# Altium footprint library CapAluminium.PcbLib: 51 footprints (part 2 of 4)
Each footprint in its own frame and in the unit in brackets; x right, y up, seen from the top. Pads: shape width x height; smd on the part's side, far side on the other; paste and mask are expansions set on the pad; w line width, h text height; cw(c..) or ccw(c..) is an arc to the next point about the centre after c.
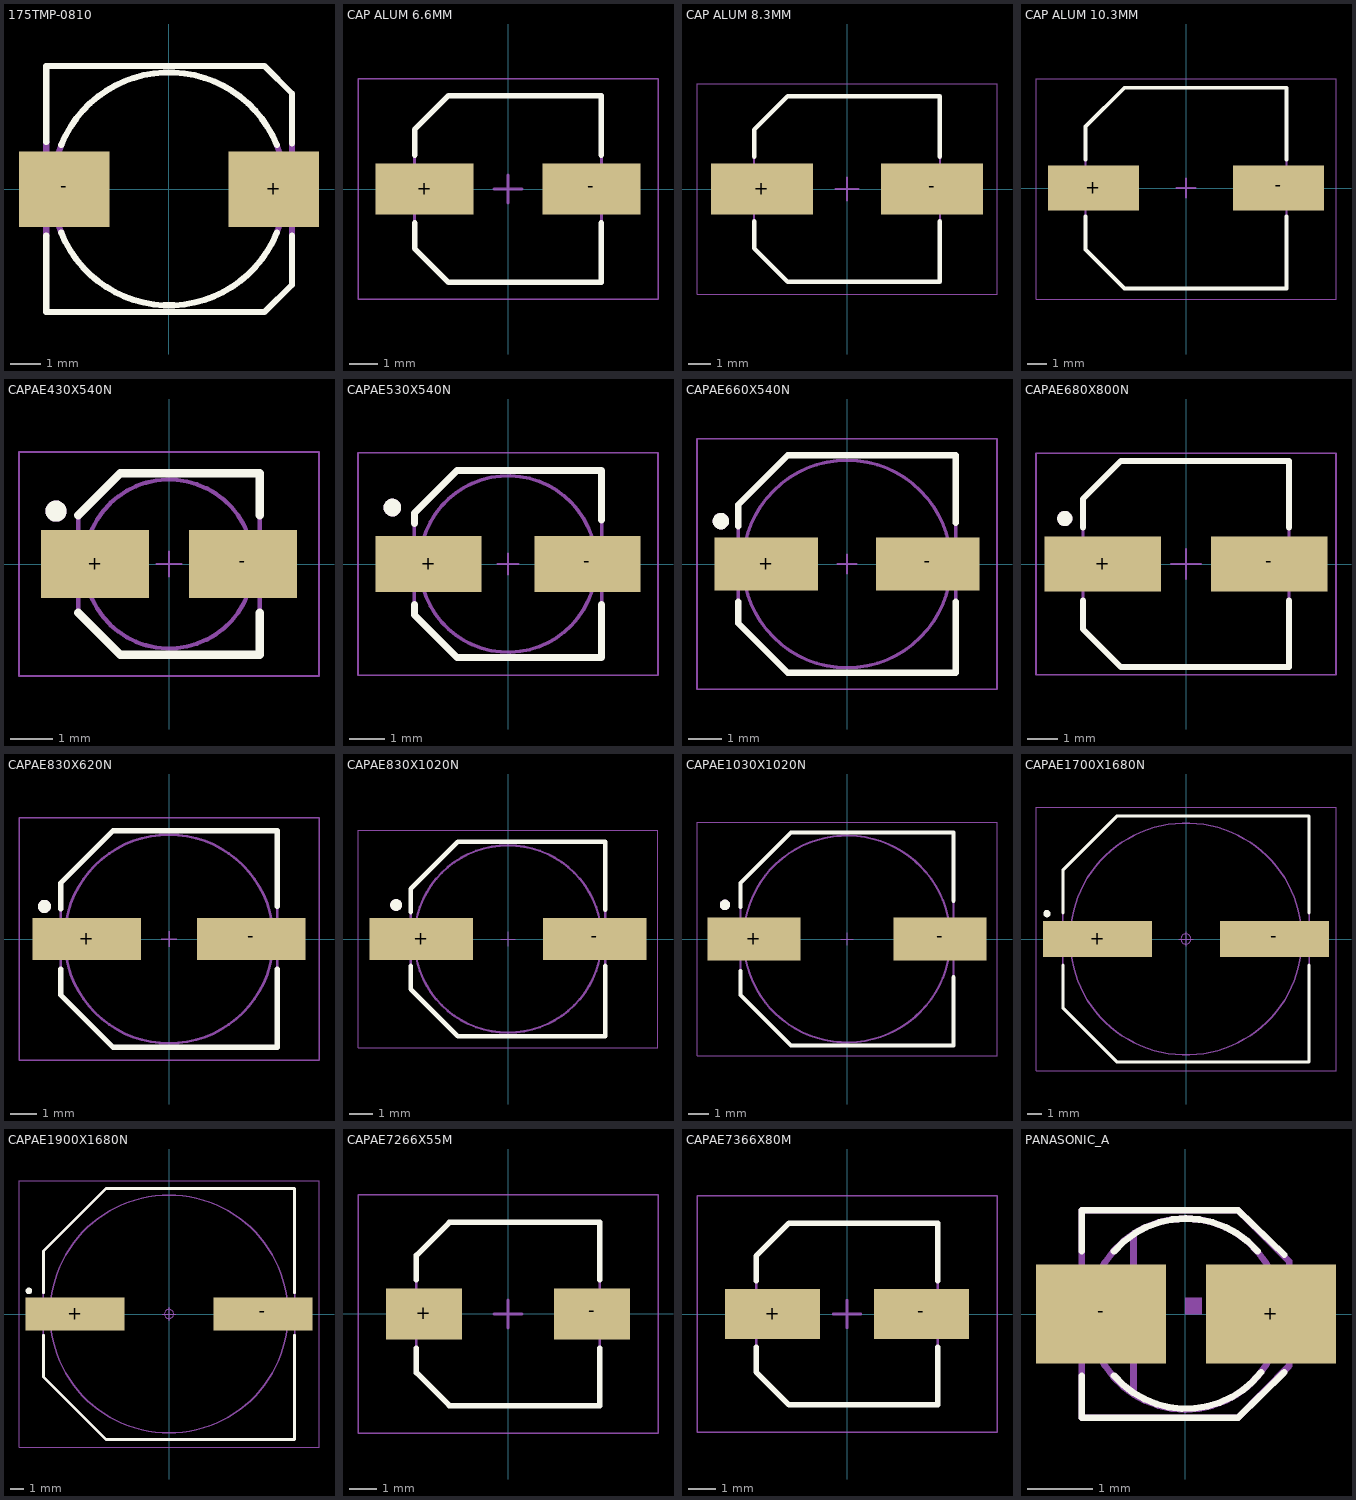
[diagram p1: the footprints below, top view; thin cyan lines are the x and y axes]

## 175TMP-0810 [mil]
pads (2):
  rect 119x99 smd: +(138,0) -(-137.8,0)
Top Overlay:
  lines w8: -161.42,-61.02 -161.42,-161.42 126,-161.42 162,-125.98 162,-61.02 ; -161.42,62 -161.42,162 126,162 162,126 162,60 ; -141.73,-57.09 ccw(c0.13,0.05) 142,-57.09 ; -141.73,58 cw(c0.13,0.86) 142,58
Mechanical 16:
  lines w8: -161.42,-61.02 -161.42,62 ; -141.73,-57.09 cw(c1.13,0.46) -141.73,58 ; 142,-57.09 ccw(c-0.87,0.46) 142,58 ; 162,-61.02 162,60
3D body "User Library-ALU-E.STEP": height 244.09, standoff 0, extent -172.16,-163 182.16,163.77

## CAP ALUM 6.6MM [mm] "Aluminum Electrolytic Capacitor, Body 6.60x6.60x7.70mm, IPC Low Density"
height 7.7
pads (2):
  rect 3.45x1.8 smd: +(-2.95,0) -(2.95,0)
Top Overlay:
  lines w0.2: -3.3,-1.2 -3.3,-2.1 -2.1,-3.3 3.3,-3.3 3.3,-1.2 ; -3.3,1.2 -3.3,2.1 -2.1,3.3 3.3,3.3 3.3,1.2
Mechanical 13:
  lines w0.1: -3.3,-2.1 -2.1,-3.3 3.3,-3.3 3.3,3.3 -2.1,3.3 -3.3,2.1 -3.3,-2.1
Mechanical 15:
  lines w0.05: -5.3,-3.9 -5.3,3.9 5.3,3.9 5.3,-3.9 -5.3,-3.9
  lines w0.1: -0.5,0 0.5,0 ; 0,-0.5 0,0.5
3D body "CAP ALUM 6_6mm.STEP": height 7.7, standoff 0, extent -3.5,-3.3 3.5,3.3

## CAP ALUM 8.3MM [mm] "Aluminum Electrolytic Capacitor, Body 8.30x8.30x10.50mm, IPC Low Density"
height 10.5
pads (2):
  rect 4.55x2.3 smd: +(-3.8,0) -(3.8,0)
Top Overlay:
  lines w0.2: -4.15,-1.45 -4.15,-2.65 -2.65,-4.15 4.15,-4.15 4.15,-1.45 ; -4.15,1.45 -4.15,2.65 -2.65,4.15 4.15,4.15 4.15,1.45
Mechanical 13:
  lines w0.1: -4.15,-2.65 -4.15,2.65 -2.65,4.15 4.15,4.15 4.15,-4.15 -2.65,-4.15 -4.15,-2.65
Mechanical 15:
  lines w0.05: -6.7,-4.7 6.7,-4.7 6.7,4.7 -6.7,4.7 -6.7,-4.7
  lines w0.1: -0.5,0 0.5,0 ; 0,-0.5 0,0.5
3D body "CAP ALUM 8_3mm.STEP": height 10.5, standoff 0, extent -4.95,-4.15 4.95,4.15

## CAP ALUM 10.3MM [mm] "Aluminum Electrolytic Capacitor, Body 10.30x10.30x10.50mm, IPC Low Density"
height 10.5
pads (2):
  rect 4.65x2.3 smd: +(-4.75,0) -(4.75,0)
Top Overlay:
  lines w0.2: -5.15,-1.45 -5.15,-3.15 -3.15,-5.15 5.15,-5.15 5.15,-1.45 ; -5.15,1.45 -5.15,3.15 -3.15,5.15 5.15,5.15 5.15,1.45
Mechanical 13:
  lines w0.1: -5.15,-3.15 -5.15,3.15 -3.15,5.15 5.15,5.15 5.15,-5.15 -3.15,-5.15 -5.15,-3.15
Mechanical 15:
  lines w0.05: -7.7,-5.7 7.7,-5.7 7.7,5.6 -7.7,5.6 -7.7,-5.7
  lines w0.1: -0.5,0 0.5,0 ; 0,-0.5 0,0.5
3D body "CAP ALUM 10_3mm.STEP": height 10.5, standoff 0, extent -5.8,-5.15 5.8,5.15

## CAPAE430X540N [mm] "Capacitor, Aluminium Electrolytric, 4.3mm L X 4.3mm W X 5.4mm H, IPC Medium Density"
height 5.4
pads (2):
  rect 2.55x1.6 smd: +(-1.75,0) -(1.75,0)
Top Overlay:
  circle w0.25: c-2.675,1.25 r0.125
  lines w0.2: -2.15,-1.15 -1.15,-2.15 2.15,-2.15 2.15,-1.15 ; -2.15,1.15 -1.15,2.15 2.15,2.15 2.15,1.15
Mechanical 14:
  circle w0.1: c0,0 r2
  circle w0.25: c-2.675,1.25 r0.125
  lines w0.1: -2.15,-1.15 -2.15,1.15 -1.15,2.15 2.15,2.15 2.15,-2.15 -1.15,-2.15 -2.15,-1.15
Mechanical 15:
  lines w0.05: -0.3,0 0.3,0 ; 0,-0.3 0,0.3 ; -3.55,-2.65 3.55,-2.65 3.55,2.65 -3.55,2.65 -3.55,-2.65
3D body "CAPAE430X540N.stp": height 5.7, standoff 0, extent -2.75,-2.25 2.75,2.25

## CAPAE530X540N [mm] "Capacitor, Aluminium Electrolytric, 5.3mm L X 5.3mm W X 5.4mm H, IPC Medium Density"
height 5.4
pads (2):
  rect 3x1.6 smd: +(-2.25,0) -(2.25,0)
Top Overlay:
  circle w0.25: c-3.275,1.6 r0.125
  lines w0.2: -2.65,-1.15 -2.65,-1.45 -1.45,-2.65 2.65,-2.65 2.65,-1.15 ; -2.65,1.15 -2.65,1.45 -1.45,2.65 2.65,2.65 2.65,1.25
Mechanical 14:
  circle w0.1: c0,0 r2.5
  circle w0.25: c-3.275,1.6 r0.125
  lines w0.1: -2.65,-1.45 -2.65,1.45 -1.45,2.65 2.65,2.65 2.65,-2.65 -1.45,-2.65 -2.65,-1.45
Mechanical 15:
  lines w0.05: -0.3,0 0.3,0 ; 0,-0.3 0,0.3 ; -4.25,-3.15 4.25,-3.15 4.25,3.15 -4.25,3.15 -4.25,-3.15
3D body "CAPAE530X540N.stp": height 5.7, standoff 0, extent -3.25,-2.75 3.25,2.75

## CAPAE660X540N [mm] "Capacitor, Aluminium Electrolytric, 6.6mm L X 6.6mm W X 5.4mm H, IPC Medium Density"
height 5.4
pads (2):
  rect 3.15x1.6 smd: +(-2.45,0) -(2.45,0)
Top Overlay:
  circle w0.25: c-3.825,1.3 r0.125
  lines w0.2: -3.3,-1.15 -3.3,-1.8 -1.8,-3.3 3.3,-3.3 3.3,-1.15 ; -3.3,1.15 -3.3,1.8 -1.8,3.3 3.3,3.3 3.3,1.25
Mechanical 14:
  circle w0.25: c-3.825,1.3 r0.125
  circle w0.1: c0,0 r3.15
  lines w0.1: -3.3,-1.8 -1.8,-3.3 3.3,-3.3 3.3,3.3 -1.8,3.3 -3.3,1.8 -3.3,-1.8
Mechanical 15:
  lines w0.05: -0.3,0 0.3,0 ; 0,-0.3 0,0.3 ; -4.55,-3.8 -4.55,3.8 4.55,3.8 4.55,-3.8 -4.55,-3.8
3D body "CAPAE660X540N.stp": height 5.7, standoff 0, extent -3.9,-3.4 3.9,3.4

## CAPAE680X800N [mm] "Capacitor, Aluminium Electrolytric, 6.8mm L X 6.8mm W X 8mm H, IPC Medium Density"
height 8
pads (2):
  rect 3.85x1.8 smd: +(-2.75,0) -(2.75,0)
Top Overlay:
  circle w0.25: c-4,1.5 r0.125
  lines w0.2: -3.4,-1.2 -3.4,-2.15 -2.15,-3.4 3.4,-3.4 3.4,-1.2 ; -3.4,1.2 -3.4,2.15 -2.15,3.4 3.4,3.4 3.4,1.2
Mechanical 14:
  circle w0.25: c-4,1.5 r0.125
  lines w0.1: -3.4,-2.15 -3.4,2.15 -2.15,3.4 3.4,3.4 3.4,-3.4 -2.15,-3.4 -3.4,-2.15
Mechanical 15:
  lines w0.05: -0.5,0 0.5,0 ; 0,-0.5 0,0.5 ; -4.95,-3.65 4.95,-3.65 4.95,3.65 -4.95,3.65 -4.95,-3.65
3D body "CAPAE680X800N.stp": height 8, standoff 0, extent -3.5,-3.4 3.5,3.4

## CAPAE830X620N [mm] "Capacitor, Aluminium Electrolytric, 8.3mm L X 8.3mm W X 6.2mm H, IPC Medium Density"
height 6.2
pads (2):
  rect 4.15x1.6 smd: +(-3.15,0) -(3.15,0)
Top Overlay:
  circle w0.25: c-4.775,1.25 r0.125
  lines w0.2: -4.15,-1.15 -4.15,-2.15 -2.15,-4.15 4.15,-4.15 4.15,-1.15 ; -4.15,1.15 -4.15,2.15 -2.15,4.15 4.15,4.15 4.15,1.25
Mechanical 14:
  circle w0.1: c0,0 r4
  circle w0.25: c-4.774,1.251 r0.125
  lines w0.1: -4.15,-2.15 -4.15,2.15 -2.15,4.15 4.15,4.15 4.15,-4.15 -2.15,-4.15 -4.15,-2.15
Mechanical 15:
  lines w0.05: -0.3,0 0.3,0 ; 0,-0.3 0,0.3 ; -5.75,-4.65 5.75,-4.65 5.75,4.65 -5.75,4.65 -5.75,-4.65
3D body "CAPAE830X620N.stp": height 6.2, standoff 0, extent -4.75,-4.25 4.75,4.25

## CAPAE830X1020N [mm] "Capacitor, Aluminium Electrolytric, 8.3mm L X 8.3mm W X 10.2mm H, IPC Medium Density"
height 10.2
pads (2):
  rect 4.4x1.8 smd: +(-3.7,0) -(3.7,0)
Top Overlay:
  circle w0.25: c-4.775,1.45 r0.125
  lines w0.2: -4.15,-1.15 -4.15,-2.15 -2.15,-4.15 4.15,-4.15 4.15,-1.15 ; -4.15,1.15 -4.15,2.15 -2.15,4.15 4.15,4.15 4.15,1.25
Mechanical 14:
  circle w0.1: c0,0 r4
  circle w0.25: c-4.775,1.45 r0.125
  lines w0.1: -4.15,-2.15 -4.15,2.15 -2.15,4.15 4.15,4.15 4.15,-4.15 -2.15,-4.15 -4.15,-2.15
Mechanical 15:
  lines w0.05: -0.3,0 0.3,0 ; 0,-0.3 0,0.3 ; -6.4,-4.65 6.4,-4.65 6.4,4.65 -6.4,4.65 -6.4,-4.65
3D body "CAPAE830X1020N.stp": height 10.2, standoff 0, extent -4.75,-4.25 5.25,4.25

## CAPAE1030X1020N [mm] "Capacitor, Aluminium Electrolytric, 10.3mm L X 10.3mm W X 10.2mm H, IPC Medium Density"
height 10.2
pads (2):
  rect 4.5x2.1 smd: +(-4.5,0) -(4.5,0)
Top Overlay:
  circle w0.25: c-5.9,1.65 r0.125
  lines w0.2: -5.15,-1.55 -5.15,-2.35 -5.15,-2.7 -2.7,-5.15 5.15,-5.15 5.15,-1.85 ; -5.15,1.55 -5.15,2.7 -2.7,5.15 5.15,5.15 5.15,1.85
Mechanical 14:
  circle w0.25: c-5.899,1.651 r0.125
  circle w0.1: c0,0 r5
  lines w0.1: -5.15,-2.7 -5.15,2.7 -2.7,5.15 5.15,5.15 5.15,-5.15 -2.7,-5.15 -5.15,-2.7
Mechanical 15:
  lines w0.05: -0.3,0 0.3,0 ; 0,-0.3 0,0.3 ; -7.25,-5.65 7.25,-5.65 7.25,5.65 -7.25,5.65 -7.25,-5.65
3D body "CAPAE1030X1020N.stp": height 10.2, standoff 0, extent -6,-5.25 6,5.25

## CAPAE1700X1680N [mm] "Capacitor,Aluminum Electrolytic; 17.00mm L X 17.00mm W X 16.80mm H , IPC Medium Density"
height 16.8
pads (2):
  rect 7.5x2.5 smd: +(-6.1,0) -(6.1,0)
Top Overlay:
  circle w0.25: c-9.6,1.75 r0.125
  lines w0.2: -8.5,-1.8 -8.5,-4.75 -4.75,-8.5 8.5,-8.5 8.5,-1.8 ; -8.5,1.8 -8.5,4.75 -4.75,8.5 8.5,8.5 8.5,1.8
Mechanical 8:
  circle w0.05: c0,0 r0.35
  lines w0.05: -0.5,0 0.5,0 ; 0,-0.5 0,0.5
Mechanical 14:
  circle w0.1: c0,0 r8
  lines w0.1: -8.5,-4.75 -4.75,-8.5 8.5,-8.5 8.5,8.5 -4.75,8.5 -8.5,4.75 -8.5,-4.75
Mechanical 15:
  lines w0.05: -10.35,-9.1 10.35,-9.1 10.35,9.1 -10.35,9.1 -10.35,-9.1
3D body "CAPAE1700X1680N.stp": height 16.8, standoff 0, extent -9.3,-8.6 9.3,8.6

## CAPAE1900X1680N [mm] "Capacitor,Aluminum Electrolytic; 19.00mm L X 19.00mm W X 16.80mm H , IPC Medium Density"
height 16.8
pads (2):
  rect 7.5x2.5 smd: +(-7.1,0) -(7.1,0)
Top Overlay:
  circle w0.25: c-10.6,1.75 r0.125
  lines w0.2: -9.5,-1.6 -9.5,-4.75 -4.75,-9.5 9.5,-9.5 9.5,-1.6 ; -9.5,1.6 -9.5,4.75 -4.75,9.5 9.5,9.5 9.5,1.6
Mechanical 8:
  circle w0.05: c0,0 r0.35
  lines w0.05: -0.5,0 0.5,0 ; 0,-0.5 0,0.5
Mechanical 14:
  circle w0.1: c0,0 r9
  lines w0.1: -9.5,-4.75 -9.5,4.75 -4.75,9.5 9.5,9.5 9.5,-9.5 -4.75,-9.5 -9.5,-4.75
Mechanical 15:
  lines w0.05: -11.35,-10.1 -11.35,10.1 11.35,10.1 11.35,-10.1 -11.35,-10.1
3D body "CAPAE1900X1680N.stp": height 16.8, standoff 0, extent -10.5,-9.6 10.5,9.6

## CAPAE7266X55M [mm] "Aluminum Electrolytic Capacitor, Body 6,60x6,60x5,50mm, IPC Low Density"
height 5.5
pads (2):
  rect 2.75x1.85 smd: +(-3.025,0) -(3.025,0)
Top Overlay:
  lines w0.2: -3.3,-1.225 -3.3,-2.113 -2.113,-3.3 3.3,-3.3 3.3,-1.225 ; -3.3,1.225 -3.3,2.113 -2.113,3.3 3.3,3.3 3.3,1.225
Mechanical 13:
  lines w0.1: -3.3,-2.113 -2.113,-3.3 3.3,-3.3 3.3,3.3 -2.113,3.3 -3.3,2.113 -3.3,-2.113
Mechanical 15:
  lines w0.05: -5.4,-4.3 -5.4,4.3 5.4,4.3 5.4,-4.3 -5.4,-4.3
  lines w0.1: -0.5,0 0.5,0 ; 0,-0.5 0,0.5
3D body "CAPAE7266X55M.step": height 5.5, standoff -0.8, extent -3.6,-3.3 3.6,3.3

## CAPAE7366X80M [mm] "Aluminum Electrolytic Capacitor, Body 6,60x6,60x8,00mm, IPC Low Density"
height 8
pads (2):
  rect 3.45x1.8 smd: +(-2.7,0) -(2.7,0)
Top Overlay:
  lines w0.2: -3.3,-1.2 -3.3,-2.1 -2.1,-3.3 3.3,-3.3 3.3,-1.2 ; -3.3,1.2 -3.3,2.1 -2.1,3.3 3.3,3.3 3.3,1.2
Mechanical 13:
  lines w0.1: -3.3,-2.1 -2.1,-3.3 3.3,-3.3 3.3,3.3 -2.1,3.3 -3.3,2.1 -3.3,-2.1
Mechanical 15:
  lines w0.05: -5.45,-4.3 -5.45,4.3 5.45,4.3 5.45,-4.3 -5.45,-4.3
  lines w0.1: -0.5,0 0.5,0 ; 0,-0.5 0,0.5
3D body "CAPAE7366X80M.step": height 8, standoff 0, extent -3.65,-3.3 3.65,3.3

## PANASONIC_A [mil]
pads (2):
  rect 79x60 smd: +(52,0) -(-51.18,0)
Top Overlay:
  lines w4: -62.99,-37.4 -62.99,-62.99 32,-62.99 60,-35.43 ; -62.99,38 -62.99,63 32,63 60,36 ; -43.31,-37.4 ccw(c0.54,0.3) 46,-35.43 ; -43.31,38 cw(c0.35,0.3) 44,38
Mechanical 16:
  circle w4: c0,0 r58
  rectangle: 58,-11.81 71,12
  rectangle: -70.87,-11.81 -57.09,12
  region: 0,0 10,0 10,10 0,10
  lines w4: -31.5,-47.24 -31.5,48 ; -62.99,-62.99 -62.99,63 32,63 63,32 63,-31.5 32,-62.99 -62.99,-62.99
3D body "User Library-ALU-A.STEP": height 212.6, standoff 0, extent -70.87,-64 70.87,65.92